# EAGLE library part SAMACSYS_PARTS_ATTINY804-SSNR (library Motor.Fader.all.Parts)
8-bit Microcontrollers - MCU 20MHz, 8KB, SOIC14, Ind 105C, Green, T&R Source: Datasheet <https://componentsearchengine.com/Datasheets/1/ATTINY804-SSNR.pdf>
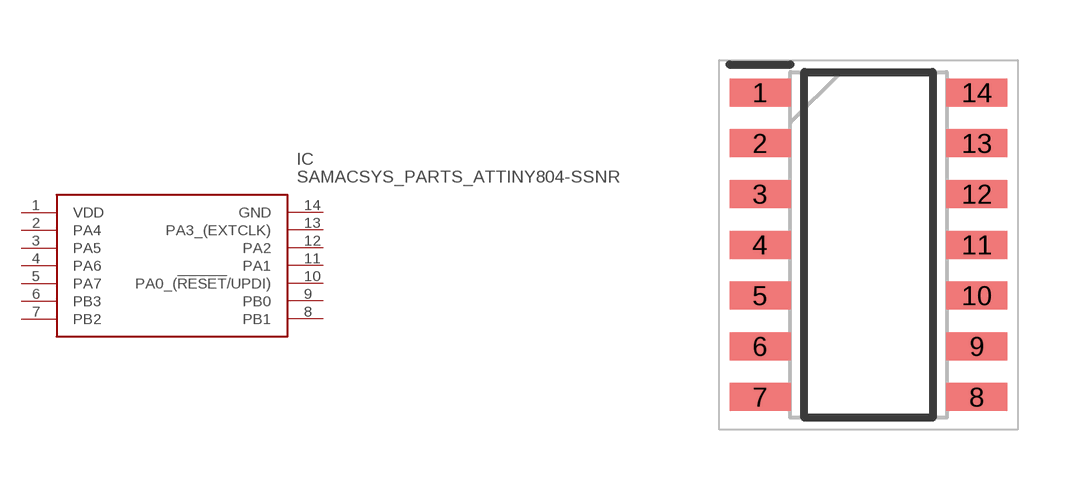
[diagram p1: symbol with the pads of SAMACSYS_PARTS_SOIC127P600X175-14N; footprint SAMACSYS_PARTS_SOIC127P600X175-14N]

Designator prefix IC

## SAMACSYS_PARTS_ATTINY804-SSNR (DESCRIPTION: 8-bit Microcontrollers - MCU 20MHz, 8KB, SOIC14, Ind 105C, Green, T&R; HEIGHT: 1.75mm; MANUFACTURER_NAME: Microchip; MANUFACTURER_PART_NUMBER: ATTINY804-SSNR; MOUSER_PART_NUMBER: 556-ATTINY804-SSNR; MOUSER_PRICE-STOCK: https://www.mouser.co.uk/ProductDetail/Microchip-Technology/ATTINY804-SSNR?qs=T3oQrply3y%252BBKoVZpNVlTw%3D%3D)  [SAMACSYS_PARTS_SOIC127P600X175-14N]
1  VDD
2  PA4
3  PA5
4  PA6
5  PA7
6  PB3
7  PB2
8  PB1
9  PB0
10  PA0_(!RESET!/UPDI)
11  PA1
12  PA2
13  PA3_(EXTCLK)
14  GND

## Footprint SAMACSYS_PARTS_SOIC127P600X175-14N (pad centres in mm)
14-pin SOIC150
smd 1.525 x 0.7: 1 -2.712,3.81; 2 -2.712,2.54; 3 -2.712,1.27; 4 -2.712,0; 5 -2.712,-1.27; 6 -2.712,-2.54; 7 -2.712,-3.81; 8 2.712,-3.81; 9 2.712,-2.54; 10 2.712,-1.27; 11 2.712,0; 12 2.712,1.27; 13 2.712,2.54; 14 2.712,3.81